# EAGLE library part FTSH-105-01-L-DH (library USBug)
Header 10 Position Dual Row 0.5" Pitch Right Angle
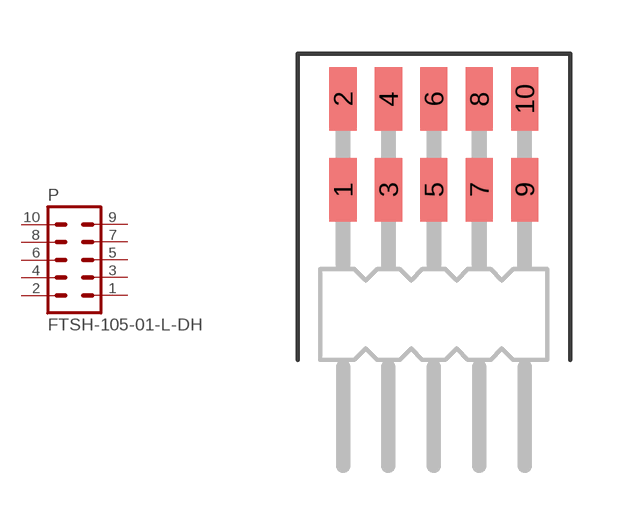
[diagram p4: symbol with the pads of FTSH-105-01-L-DH; footprint FTSH-105-01-L-DH]

Designator prefix P

## FTSH-105-01-L-DH  [FTSH-105-01-L-DH]
1  1  pas
2  2  pas
3  3  pas
4  4  pas
5  5  pas
6  6  pas
7  7  pas
8  8  pas
9  9  pas
10  10  pas

## Footprint FTSH-105-01-L-DH (pad centres in mm)
Header 10 Position Dual Row 0.5" Pitch Right Angle
smd 0.762 x 1.778: 1 -2.54,-1.27; 2 -2.54,1.27; 3 -1.27,-1.27; 4 -1.27,1.27; 5 0,-1.27; 6 0,1.27; 7 1.27,-1.27; 8 1.27,1.27; 9 2.54,-1.27; 10 2.54,1.27